# Altium schematic symbol library Texas Instruments.SchLib: 5 symbols
Pins are listed as number, name and electrical type; pins without a type are passive.

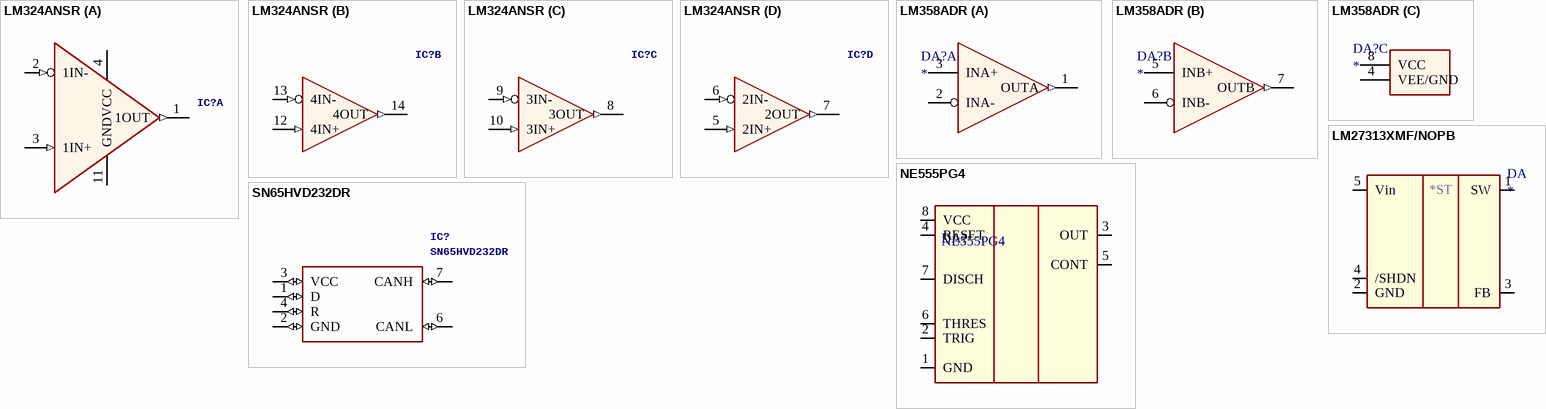
[diagram p0: symbols LM324ANSR to SN65HVD232DR]

## LM324ANSR
designator IC?
Счетверенный ОУ общего применения; Manufacturer_Name: Texas Instruments; GateName_1: G$1; SymbolName_1: LM324ANSR; LibraryName: LM324ANSR; DeviceSetName: LM324ANSR; Package: SOIC127P780X200-14N; Mouser_Part_Number: 595-LM324ANSR; Mouser_Price-Stock: https://www.mouser.com/Search/Refine.aspx?Keyword=595-LM324ANSR; Manufacturer_Part_Number: LM324ANSR; Height: 2mm
footprint SO-14
part A pins: 1 1OUT (out), 2 1IN- (in), 3 1IN+ (in), 4 VCC (power), 11 GND (power)
part B pins: 12 4IN+ (in), 13 4IN- (in), 14 4OUT (out)
part C pins: 8 3OUT (out), 9 3IN- (in), 10 3IN+ (in)
part D pins: 5 2IN+ (in), 6 2IN- (in), 7 2OUT (out)

## LM358ADR
designator DA?
Двухканальный операционный усилитель с однополярным питанием, 3В…32В, [SO-8]; Manufacturer: Texas Instruments; ComponentLink3Description: Datasheet; ComponentLink3URL: http://www.ti.com/lit/ds/symlink/lm27313.pdf
footprint SO-8 (SOIC, 8-Leads, Body 4,91x3,90mm, Pitch 1,27mm, IPC Medium Density)
part A pins: 1 OUTA (out), 2 INA-, 3 INA+
part B pins: 5 INB+, 6 INB-, 7 OUTB (out)
part C pins: 4 VEE/GND (power), 8 VCC (power)

## LM27313XMF/NOPB
designator DA
Импульсный повышающий преобразователь напряжения, 1.6МГц [SOT-23-5]; Manufacturer: Texas Instruments; ComponentLink1Description: Official page; ComponentLink1URL: https://www.ti.com/product/LM27313/toolssoftware; ComponentLink2Description: Application notes; ComponentLink2URL: http://www.ti.com/lit/an/slva638b/slva638b.pdf; ComponentLink3Description: Datasheet; ComponentLink3URL: http://www.ti.com/lit/ds/symlink/lm27313.pdf
simulation model LM27313_TRANS ($)
footprint SOT23-5_N (SOT23, 6-Leads, Body 2.9x1.6mm, Pitch 0.95mm, Lead Span 2.7mm, IPC Medium Density)
pins: 1 SW "Drain of the internal FET switch", 2 GND "Analog and power ground", 3 FB "Feedback point that connects to external resistive divider to set VOUT", 4 /SHDN "Shutdown control input. Connect to VIN if this feature is not used", 5 Vin "Analog and power input"
text: *ST

## NE555PG4
designator DA?
Precision timer, PDIP-8; Manufacturer_Name: Texas Instruments; Geometry.Height: 5.08mm; Mouser Part Number: N/A; Mouser Price/Stock: http://www.mouser.com/Search/ProductDetail.aspx?qs=Nav04MjECWXwd8kM6PNLsw%3d%3d; Manufacturer_Part_Number: NE555PG4; Datasheet Link: http://www.ti.com/lit/ds/symlink/ne555.pdf
footprint DIP-8 (DIP; 8 Leads; Row Spacing 7.62 mm; Pitch 2.54 mm)
simulation model NE555 (Copyright В© Linear Technology Corp. 1998, 1999, 2000, 2001, 2002, 2003, 2004, 2005, 2008.  All rights reserved)
pins: 1 GND, 2 TRIG, 3 OUT, 4 RESET, 5 CONT, 6 THRES, 7 DISCH, 8 VCC

## SN65HVD232DR
designator IC?
3.3 V CAN TransceiverSource:  Datasheet; Manufacture: Texas Instruments; PurtNumber: SN65HVD232DR
footprint SO-8 (SOIC, 8-Leads, Body 4,91x3,90mm, Pitch 1,27mm, IPC Medium Density)
pins: 1 D (io), 2 GND (io), 3 VCC (io), 4 R (io), 6 CANL (io), 7 CANH (io)